# Altium footprint library DT132P.PcbLib: 1 footprints
Each footprint in its own frame and in the unit in brackets; x right, y up, seen from the top. Pads: shape width x height; smd on the part's side, far side on the other; paste and mask are expansions set on the pad; w line width, h text height; cw(c..) or ccw(c..) is an arc to the next point about the centre after c.
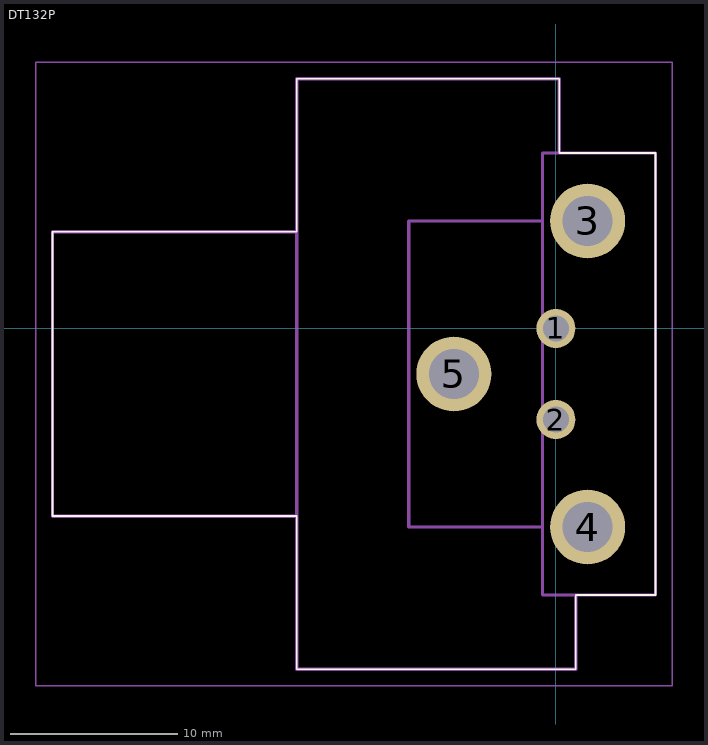
[diagram p0: the footprint, top view; thin cyan lines are the x and y axes]

## DT132P [mm]
pads (5):
  round 2.34 hole 1.56: 1(0,0) 2(0,-5.46)
  round 4.485 hole 2.99: 3(1.9,6.425) 4(1.9,-11.885) 5(-6.1,-2.73)
Top Overlay:
  lines w0.1: -30.11,-11.23 -15.5,-11.23 -15.5,-20.385 1.2,-20.385 1.2,-15.95 5.96,-15.95 5.96,10.49 0.2,10.49 0.2,14.925 -15.5,14.925 -15.5,5.78 -30.11,5.78 -30.11,-11.23
Mechanical 15:
  lines w0.2: -15.5,-11.24 -30.11,-11.24 -30.11,5.78 -15.5,5.78 ; -0.8,-11.885 -8.8,-11.885 -8.8,6.425 -0.8,6.425 ; 0.2,10.49 0.2,14.925 -15.5,14.925 -15.5,-20.385 1.2,-20.385 1.2,-15.95 ; -0.8,-15.95 5.96,-15.95 5.96,10.49 -0.8,10.49 -0.8,-15.95
Mechanical 20:
  lines w0.1: -31.11,-21.385 6.96,-21.385 6.96,15.925 -31.11,15.925 -31.11,-21.385